# Altium footprint library Mech,Hole,M3,3mm,Plated.PcbLib: 1 footprints
Each footprint in its own frame and in the unit in brackets; x right, y up, seen from the top. Pads: shape width x height; smd on the part's side, far side on the other; paste and mask are expansions set on the pad; w line width, h text height; cw(c..) or ccw(c..) is an arc to the next point about the centre after c.
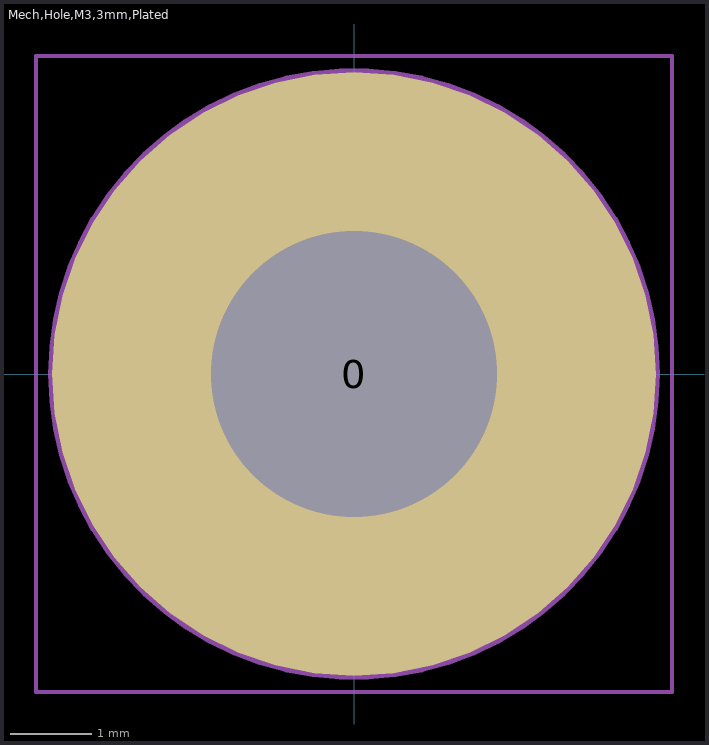
[diagram p0: the footprint, top view; thin cyan lines are the x and y axes]

## Mech,Hole,M3,3mm,Plated [mm]
pads (1):
  round 7.4 hole 3.5: 0(0,0)
Top 3D Body:
  circle w0.1: c0,0 r3.7
  circle w0.1: c0,0 r1.5
  lines w0.1: -1.061,-1.061 1.061,1.061 ; -1.061,1.061 1.061,-1.061
Top Courtyard (Mech15):
  lines w0.05: -0.5,0 0.5,0 ; 0,-0.5 0,0.5 ; -3.9,-3.9 -3.9,3.9 3.9,3.9 3.9,-3.9 -3.9,-3.9